# EAGLE library part CYPRESS_S25FL127SABMFI101 (library Drone)
128-Mbit (16 Mbyte) 3.0 V SPI Flash Memory
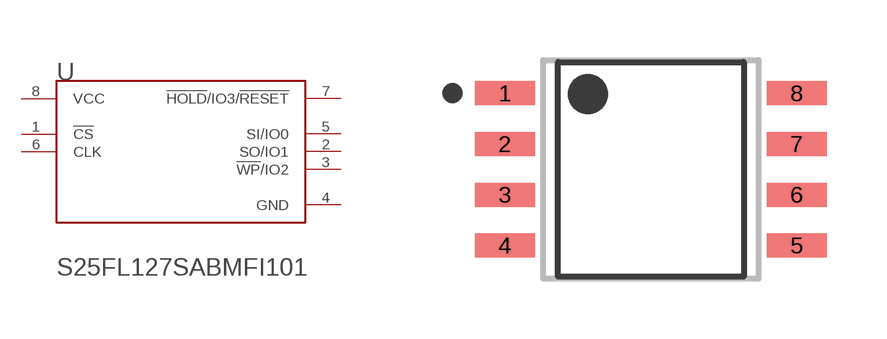
[diagram p1: symbol with the pads of CYPRESS_S25FL127SABMFI101_0; footprint CYPRESS_S25FL127SABMFI101_0]

Designator prefix U

## CYPRESS_S25FL127SABMFI101CYPRESS_S25FL127SABMFI101_0_0 (AMBIENT_TEMPERATURE_RANGE_HIGH: +85°C; AMBIENT_TEMPERATURE_RANGE_LOW: -40°C; CENTROID_NOT_SPECIFIED: No; DATASHEET: http://www.cypress.com/file/177961/download; DEVICE_CLASS_L1: Integrated Circuits (ICs); DEVICE_CLASS_L2: Memory; DEVICE_CLASS_L3: Flash; DIGIKEY_DESCRIPTION: IC FLASH 128MBIT 108MHZ 8SOIC; DIGIKEY_PART_NUMBER: 1274-1045-ND; FOOTPRINT_PARAMETERS_0: {"fp_type":"SOIC_narrow","params":{"N":{"nom":8,"long name":"Number of leads","min":null,"max":null,"short name":"N","type":"count"},"A":{"nom":false,"long name":"Height","min":1750000,"max":2160000,"short name":"A","type":"measurement"},"A1":{"nom":false,"long name":"Package clearance","min":50000,"max":250000,"short name":"A1","type":"measurement"},"A2":{"nom":false,"long name":"Package height","min":1700000,"max":1900000,"short name":"A2","type":"measurement"},"D":{"nom":5280000,"long name":"Package length","min":5080000,"max":5480000,"short name":"D","type":"measurement"},"E":{"nom":8000000,"long name":"Width w/ leads","min":7670000,"max":8330000,"short name":"E","type":"measurement"},"E1":{"nom":5280000,"long name":"Package width","min":5180000,"max":5380000,"short name":"E1","type":"measurement"},"B":{"nom":false,"long name":"Lead width","min":360000,"max":480000,"short name":"B","type":"measurement"},"C":{"nom":false,"long name":"Lead thickness","min":190000,"max":240000,"short name":"C","type":"measurement"},"e":{"nom":1270000,"long name":"Lead pitch","min":null,"max":null,"short name":"e","type":"measurement"},"L":{"nom":false,"long name":"Lead foot length","min":510000,"max":760000,"short name":"L","type":"measurement"},"PHI":{"nom":false,"long name":"Lead foot angle","min":0,"max":8,"short name":"PHI","type":"measurement"},"HT":{"default":"No","long name":"Thermal pad","type":"multichoiceparent","short name":"HT","children":[]},"offset x":{"nom":0,"long name":"X Center offset","min":null,"max":null,"short name":"offset x","type":"measurement"},"offset y":{"nom":0,"long name":"Y Center offset","min":null,"max":null,"short name":"offset y","type":"measurement"},"LS":{"default":"Rounded rectangle","long name":"Land shape","type":"multichoice","short name":"LS"},"LS1":{"default":"Rectangle","long name":"Land shape (Pin 1)","type":"multichoice","short name":"LS1"},"solder toe":{"nom":150000,"long name":"Solder fillet (toe)","min":null,"max":null,"short name":"solder toe","type":"fixedmeasurement"},"solder heel":{"nom":250000,"long name":"Solder fillet (heel)","min":null,"max":null,"short name":"solder heel","type":"fixedmeasurement"},"solder side":{"nom":10000,"long name":"Solder fillet (side)","min":null,"max":null,"short name":"solder side","type":"fixedmeasurement"},"courtyard":{"nom":100000,"long name":"Courtyard","min":null,"max":null,"short name":"courtyard","type":"fixedmeasurement"},"SF":{"default":"C","long name":"Packing level","type":"multichoiceparent","short name":"SF","help":"http://support.upverter.com/customer/portal/articles/978783-what-is-a-footprint-packing-level","children":["solder toe","solder heel","solder side","courtyard"]}}}; FOOTPRINT_URL: http://www.cypress.com/file/217366/download; FREQUENCY: 108MHz; HEIGHT: 2.16mm; INTERFACE: SPI; IPC_LAND_PATTERN_NAME: SOIC127P800X196-8; LEAD_FREE: yes; MAX_SUPPLY_VOLTAGE: 3.6V; MEMORY_SIZE: 16MB; MEMORY_TYPE: FLASH,NOR; MF: Cypress; MFG_PACKAGE_IDENT: 002-15548; MFG_PACKAGE_IDENT_DATE: 0; MFG_PACKAGE_IDENT_REV: 0; MIN_SUPPLY_VOLTAGE: 2.7V; MOUSER_DESCRIPTION: S25FL127S Series 128 Mb (16M x 8) 3 V SMT SPI Serial Flash-NOR Memory - SOIC-8; MOUSER_PART_NUMBER: 797-25FL127SABMFI101; MPN: S25FL127SABMFI101; PACKAGE: SOIC8; PREFIX: U; ROHS: yes; STANDOFF_HEIGHT: 0.05mm; TEMPERATURE_RANGE_HIGH: +85°C; TEMPERATURE_RANGE_LOW: -40°C; VERIFICATION_VERSION: 0.0.0.1)  [CYPRESS_S25FL127SABMFI101_0]
1  !CS!  in
2  SO/IO1
3  !WP!/IO2
4  GND  pwr
5  SI/IO0
6  CLK  in
7  !HOLD!/IO3/!RESET!
8  VCC  pwr

## Footprint CYPRESS_S25FL127SABMFI101_0 (pad centres in mm)
128-Mbit (16 Mbyte) 3.0 V SPI Flash Memory
smd 1.5 x 0.6: 1 -3.65,1.905; 2 -3.65,0.635; 3 -3.65,-0.635; 4 -3.65,-1.905; 5 3.65,-1.905; 6 3.65,-0.635; 7 3.65,0.635; 8 3.65,1.905